# Altium footprint library PcbLib1.PcbLib: 10 footprints
Each footprint in its own frame and in the unit in brackets; x right, y up, seen from the top. Pads: shape width x height; smd on the part's side, far side on the other; paste and mask are expansions set on the pad; w line width, h text height; cw(c..) or ccw(c..) is an arc to the next point about the centre after c.
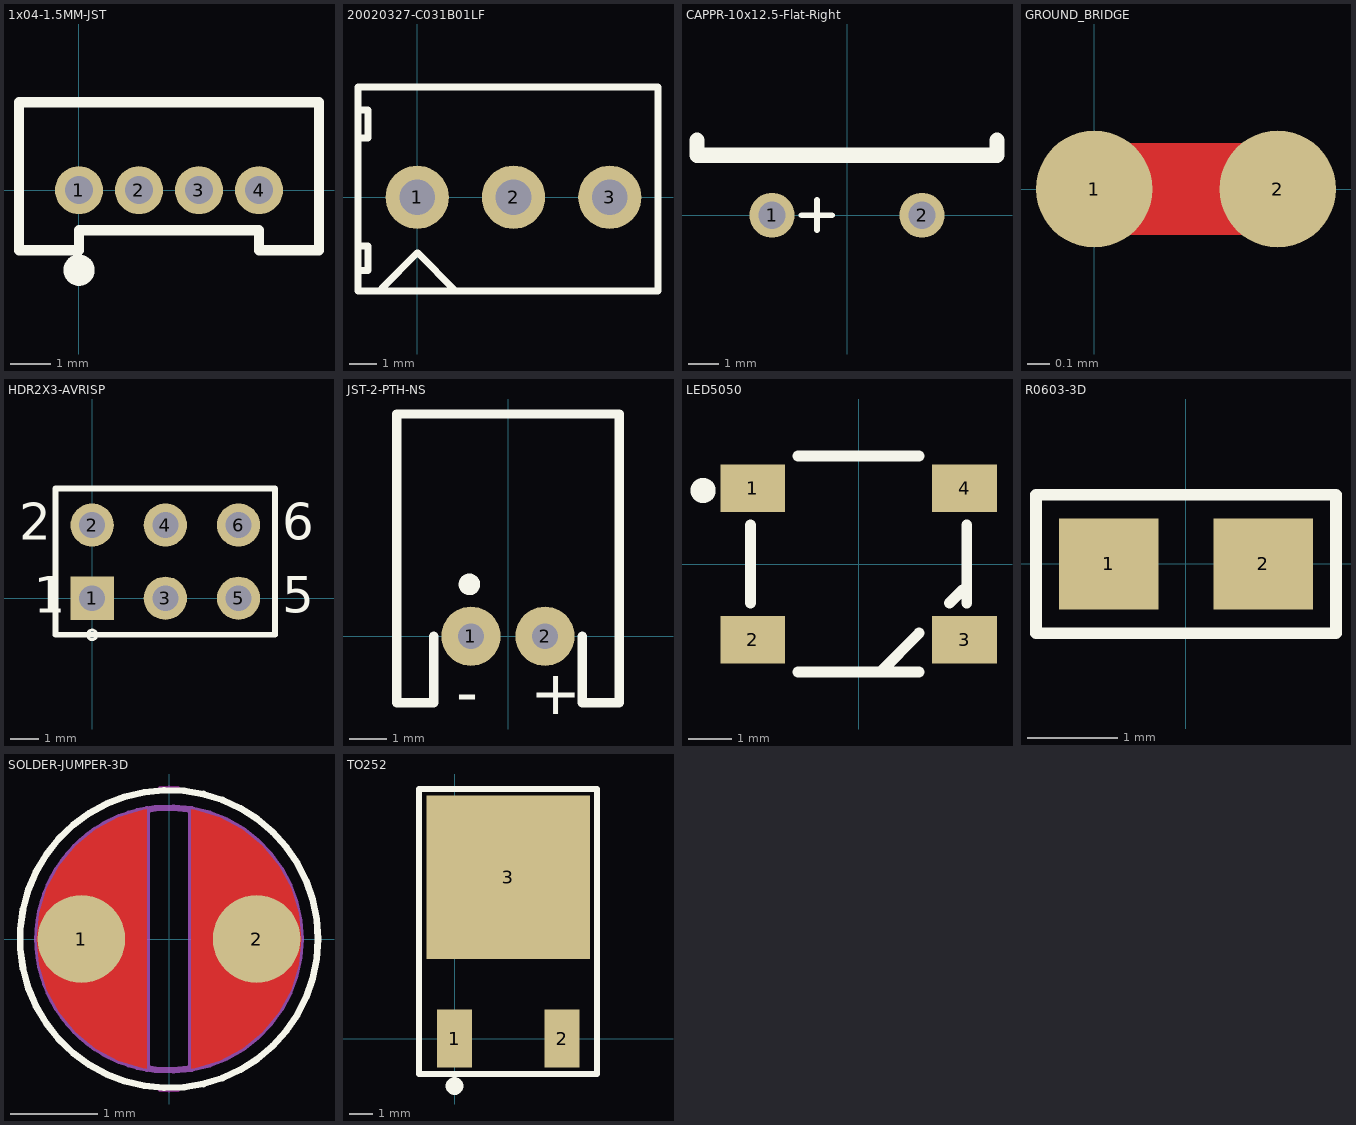
[diagram p0: the footprints below, top view; thin cyan lines are the x and y axes]

## 1x04-1.5MM-JST [mm]
pads (4):
  round 1.2 hole 0.7: 1(0,0) 2(1.5,0) 3(3,0) 4(4.5,0)
Top Overlay:
  circle w0.5: c0,-2 r0.141
  lines w0.254: -1.5,-1.5 -1.5,2.2 6,2.2 6,-1.5 4.5,-1.5 4.5,-1 0,-1 0,-1.5 -1.5,-1.5
3D body: height 5, standoff 0, extent -1.5,-1.5 6,2.2

## 20020327-C031B01LF [mm] "Fixed Terminal Blocks 3P 3.50MM TERM BLK FIXED HORIZONTAL"
height 8.5
pads (3):
  round 2.3 hole 1.3: 1(0,0) 2(3.5,0) 3(7,0)
Top Overlay:
  lines w0.254: -2.15,-2.667 -1.778,-2.667 -1.778,-1.778 -2.15,-1.778 ; -2.15,2.159 -1.778,2.159 -1.778,3.175 -2.15,3.175 ; -1.27,-3.4 -1.27,-3.302 0,-2.032 0.029,-2.032 1.397,-3.4 ; -0.635,-3.4 -0.606,-3.4 ; -2.15,-3.4 8.75,-3.4 8.75,4 -2.15,4 -2.15,-3.4
3D body: height 8.5, standoff 0, extent -1.651,-3.048 8.255,3.556

## CAPPR-10x12.5-Flat-Right [mm]
pads (2):
  round 1.5 hole 0.9: 1(-2.5,0) 2(2.5,0)
Top Overlay:
  lines w0.2: -1.516,0 -0.5,0 ; -1,-0.5 -1,0.516
  lines w0.508: -5,2.5 -5,2 5,2 5,2.5
3D body: height 4.99, standoff -4.99, extent -5,2 4.961,14.5
3D body: height 1, standoff 0, extent 1.706,-0.798 3.3,0.798
3D body: height 1, standoff 0, extent -3.294,-0.798 -1.7,0.799

## GROUND_BRIDGE [mil]
pads (2):
  round 20 smd paste-10 mask-10: 1(0,0) 2(31.5,0)
Top Layer:
  rectangle: 3.94,-7.87 27.56,7.87

## HDR2X3-AVRISP [mm] "Connector; Header; 3x2 Position"
pads (6):
  rect 1.5x1.5 hole 0.9: 1(0,0)
  round 1.5 hole 0.9: 2(0,2.54) 3(2.54,0) 4(2.54,2.54) 5(5.08,0) 6(5.08,2.54)
Top Overlay:
  circle w0.1: c0,-1.27 r0.164
  lines w0.2: 1.482,-1.27 6.35,-1.27 ; 6.35,-1.27 6.35,3.81 -1.27,3.81 -1.27,-1.27 6.35,-1.27
  text "6" at 6.604,2.032 h1.27
  text "5" at 6.604,-0.508 h1.27
  text "2" at -2.54,2.032 h1.27
  text "1" at -2.032,-0.508 h1.27
3D body: height 1, standoff 0, extent -1.3,-1.3 6.4,3.8

## JST-2-PTH-NS [mm]
pads (2):
  round 1.6 hole 0.7: 1(-1,0) 2(1,0)
Top Overlay:
  circle w0.3: c-1.041,1.4 r0.141
  lines w0.254: -2,0 -2,-1.8 -3,-1.8 -3,6 3,6 3,-1.8 2,-1.8 2,0
  text "+" at 0.6,-2.1 h1.2
  text "-" at -1.4,-2.1 h1.2

## LED5050 [mm]
pads (4):
  rect 1.5x1.1 smd: 1(-2.45,1.75) 2(-2.45,-1.75) 3(2.45,-1.75) 4(2.45,1.75)
Top Overlay:
  circle w0.3: c-3.6,1.7 r0.141
  lines w0.254: -2.5,-0.9 -2.5,0.9 ; -1.4,-2.5 1.4,-2.5 ; -1.4,2.5 1.4,2.5 ; -0.4,-2.5 -0.1,-2.5 ; 0.5,-2.5 1.4,-1.6 ; 2.1,-0.9 2.4,-0.6 2.5,-0.6 ; 2.5,-0.9 2.5,0.9
3D body: height 2, standoff 0, extent -2.5,-2.5 2.5,2.5

## R0603-3D [mm]
pads (2):
  rect 1.1x1 smd: 1(-0.85,0) 2(0.85,0)
Top Overlay:
  lines w0.127: -1.651,-0.762 -1.651,0.762 -0.254,0.762 0.254,0.762 1.651,0.762 1.651,-0.762 0.381,-0.762 -0.254,-0.762 -1.651,-0.762
3D body: height 0.51, standoff 0, extent -0.762,-0.381 0.762,0.381

## SOLDER-JUMPER-3D [mm]
pads (2):
  round 1 smd: 1(-1,0) 2(1,0)
Top Layer:
  region: -0.254,-1.477 -0.255,1.481 -0.295,1.477 -0.578,1.391 -0.838,1.252 -1.066,1.065 -1.253,0.837 -1.393,0.576 -1.478,0.294 -1.507,0 -1.478,-0.294 -1.393,-0.576 -1.253,-0.837 -1.066,-1.065 -0.838,-1.252 -0.578,-1.391 -0.295,-1.477 -0.255,-1.481
  region: 0.255,-1.481 0.295,-1.477 0.578,-1.391 0.838,-1.252 1.066,-1.065 1.253,-0.837 1.393,-0.576 1.478,-0.294 1.507,0 1.478,0.294 1.393,0.576 1.253,0.837 1.066,1.065 0.838,1.252 0.578,1.391 0.295,1.477 0.255,1.481 0.254,1.477
Top Layer keep-out:
  lines w0.076: -0.101,-1.709 ccw(c0,0) 0.101,-1.709 ; -0.101,1.709 cw(c0,0) 0.101,1.709
Top Overlay:
  circle w0.076: c0,0 r1.7
Top Solder:
  region: 0,-1.507 -0.294,-1.478 -0.577,-1.393 -0.837,-1.253 -1.066,-1.066 -1.253,-0.837 -1.393,-0.577 -1.478,-0.294 -1.507,0 -1.478,0.294 -1.393,0.577 -1.253,0.837 -1.066,1.066 -0.837,1.253 -0.577,1.393 -0.294,1.478 0,1.507 0.294,1.478 0.577,1.393 0.837,1.253 1.066,1.066 1.253,0.837 1.393,0.577 1.478,0.294 1.507,0 1.478,-0.294 1.393,-0.577 1.253,-0.837 1.066,-1.066 0.837,-1.253 0.577,-1.393 0.294,-1.478
Mechanical 13:
  circle w0.076: c0,0 r1.5
  lines w0.076: -0.254,-1.477 cw(c-0.001,0) -0.254,1.477 -0.254,-1.477 ; 0.254,-1.477 ccw(c0.001,0) 0.254,1.477 0.254,-1.477
3D body: height 0.1, standoff 0, extent -1.29,-1.297 1.3,1.298

## TO252 [mm]
pads (3):
  rect 1.5x2.5 smd: 1(0,0) 2(4.6,0)
  rect 7x7 smd: 3(2.3,6.9)
Top Overlay:
  circle w0.5: c0,-2.032 r0.127
  lines w0.254: -1.524,-1.524 6.096,-1.524 6.096,10.668 -1.524,10.668 -1.524,-1.524
3D body: height 2.29, standoff 0, extent -1.016,2.667 5.588,9.525